# Altium footprint library 70AAJ-5-M0-ND.PcbLib: 1 footprints
Each footprint in its own frame and in the unit in brackets; x right, y up, seen from the top. Pads: shape width x height; smd on the part's side, far side on the other; paste and mask are expansions set on the pad; w line width, h text height; cw(c..) or ccw(c..) is an arc to the next point about the centre after c.
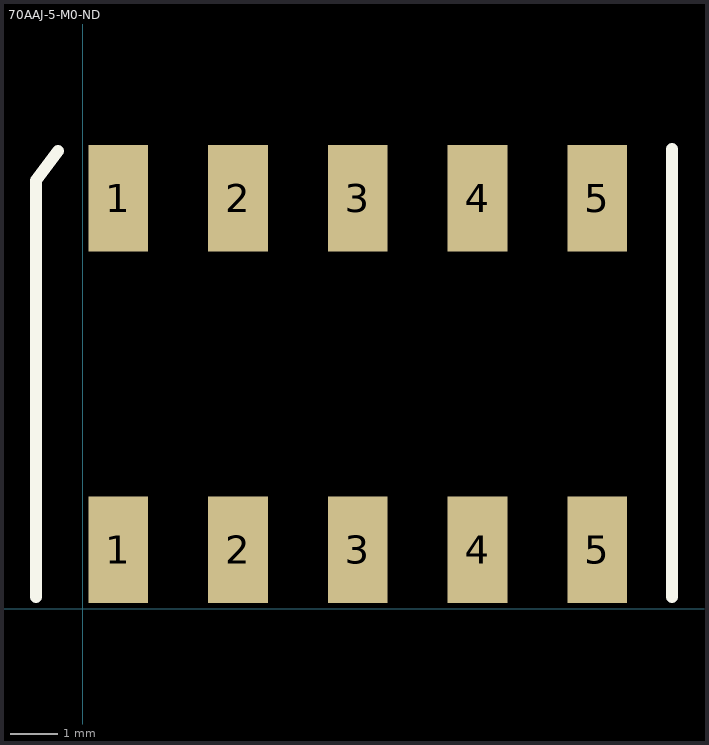
[diagram p0: the footprint, top view; thin cyan lines are the x and y axes]

## 70AAJ-5-M0-ND [mm]
height 5
pads (10):
  rect 1.27x2.26 smd: 1(0.75,1.25) 1(0.75,8.71) 2(3.29,1.25) 2(3.29,8.71) 3(5.83,1.25) 3(5.83,8.71) 4(8.37,1.25) 4(8.37,8.71) 5(10.91,1.25) 5(10.91,8.71)
Top Overlay:
  lines w0.254: -1,0.25 -1,7 -1,9.083 -0.53,9.71 ; 12.5,0.25 12.5,9.75
3D body "[butterfly] 70AAJ-5-M0-ND.step": height 4.06, standoff 0.1, extent -0.57,0.686 12.05,9.166